# Altium footprint library Murata 2900.PcbLib: 1 footprints
Each footprint in its own frame and in the unit in brackets; x right, y up, seen from the top. Pads: shape width x height; smd on the part's side, far side on the other; paste and mask are expansions set on the pad; w line width, h text height; cw(c..) or ccw(c..) is an arc to the next point about the centre after c.
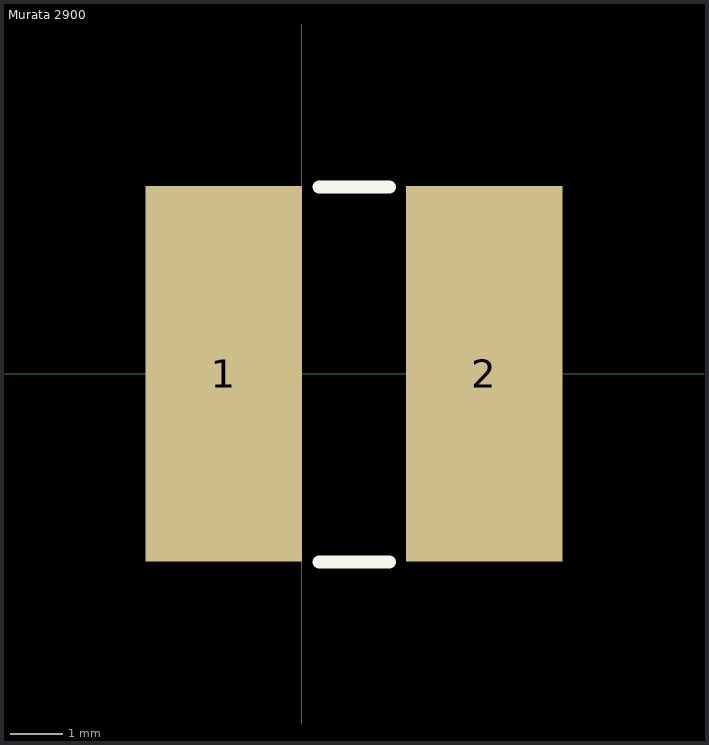
[diagram p0: the footprint, top view; thin cyan lines are the x and y axes]

## Murata 2900 [mm] "Murata 2900 Series surface mount shielded toroidal inductor"
height 3.75
pads (2):
  rect 3x7.2 smd: 1(-1.5,0) 2(3.5,0)
Top Overlay:
  lines w0.254: 0.33,-3.607 1.676,-3.607 ; 0.33,3.581 1.676,3.581
3D body: height 2, standoff 0, extent -2.011,-2.994 3.965,2.994